# Altium footprint library PcbLib1.PcbLib: 226 footprints (part 6 of 15)
Each footprint in its own frame and in the unit in brackets; x right, y up, seen from the top. Pads: shape width x height; smd on the part's side, far side on the other; paste and mask are expansions set on the pad; w line width, h text height; cw(c..) or ccw(c..) is an arc to the next point about the centre after c.
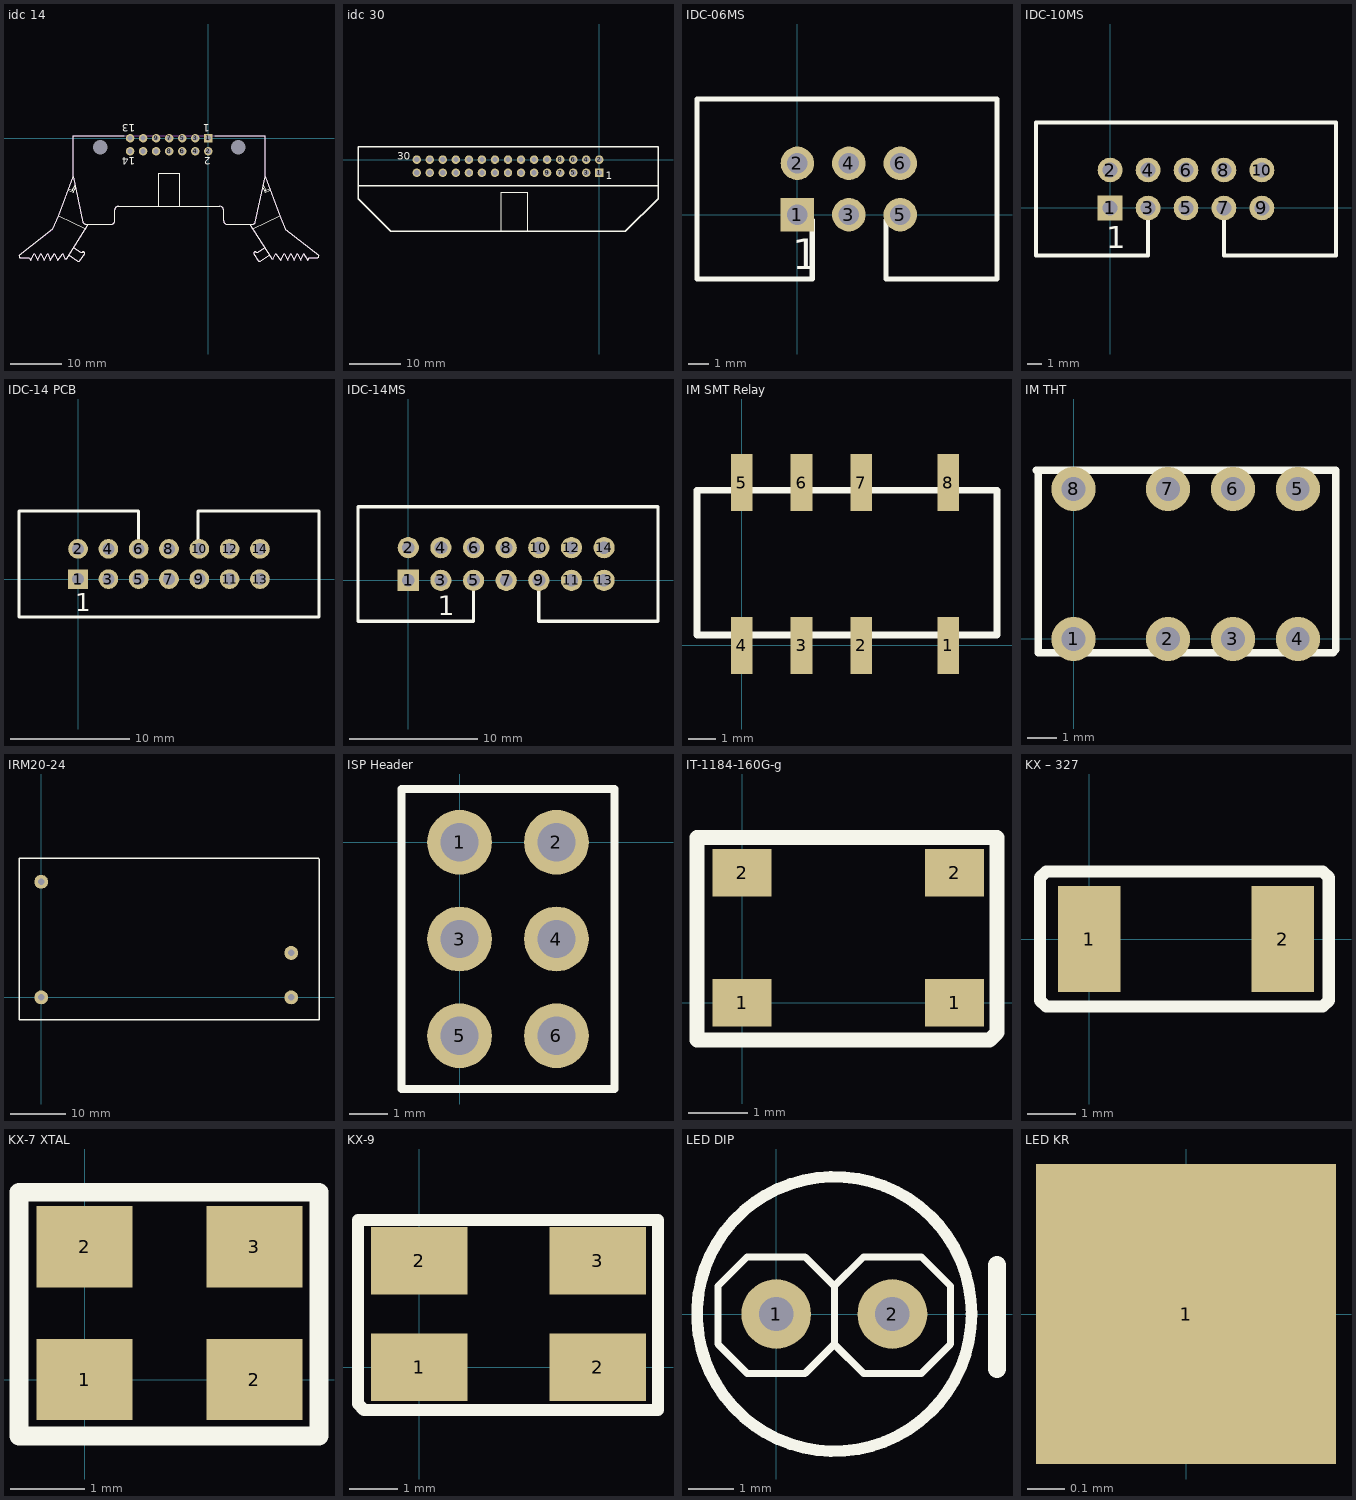
[diagram p5: the footprints below, top view; thin cyan lines are the x and y axes]

## idc 14 [mm]
pads (16):
  rect 1.65x1.65 hole 1: 1(0,0)
  round 1.65 hole 1: 2(0,-2.54) 3(-2.54,0) 4(-2.54,-2.54) 5(-5.08,0) 6(-5.08,-2.54) 7(-7.62,0) 8(-7.62,-2.54) 9(-10.16,0) 10(-10.16,-2.54) 11(-12.7,0) 12(-12.7,-2.54) 13(-15.24,0) 14(-15.24,-2.54)
  round 2.5 hole 2.8 unplated: MH1(5.84,-1.8) MH2(-21.08,-1.8)
Top Overlay:
  lines w0.2: -36.883,-22.846 ccw(c-36.574,-22.987) -36.574,-23.327 -34.963,-23.327 ; -36.835,-22.794 -30.3,-17.7 ; -30.285,-17.725 -29.159,-15.11 ; -27.29,-10.121 -26.325,-10.57 ; -27.161,-9.833 -26.49,-10.147 ; -27.155,-22.87 -25.432,-23.995 ccw(c-25.283,-23.657) -25.017,-23.914 -24.092,-22.515 ccw(c-24.412,-22.495) -24.464,-22.18 cw(c-24.732,-21.865) -24.867,-22.255 ; -26.233,-21.373 -24.87,-22.261 ; -25.963,-9.195 -26.49,-10.147 ; -25.863,-9.648 -26.325,-10.57 ; -23.935,-17.653 -29.159,-15.11 ; -23.364,-16.8 -27.498,-23.328 cw(c-27.821,-23.226) -27.963,-23.535 -28.37,-22.571 -29.4,-23.771 -30.03,-22.571 -30.78,-23.771 -31.33,-22.571 -32.03,-23.771 -32.65,-22.571 -33.3,-23.771 -33.9,-22.571 -34.644,-23.771 ; -16.35,0.5 -26.32,0.5 -26.32,-7.5 ; -9.68,-6.8 -5.58,-6.8 ; -9.67,-13.3 -9.67,-6.804 ; -5.57,-13.3 -5.57,-6.8 ; 1.225,0.5 11.08,0.5 11.08,-7.5 ; 8.124,-16.8 12.258,-23.328 ccw(c12.581,-23.226) 12.723,-23.535 13.13,-22.571 14.16,-23.771 14.79,-22.571 15.54,-23.771 16.09,-22.571 16.79,-23.771 17.41,-22.571 18.06,-23.771 18.661,-22.571 19.405,-23.771 ; 8.695,-17.653 13.919,-15.11 ; 9.627,-22.255 cw(c9.492,-21.865) 9.224,-22.18 ccw(c9.172,-22.495) 8.852,-22.515 9.777,-23.914 ccw(c10.043,-23.657) 10.192,-23.995 11.915,-22.87 ; 9.63,-22.261 10.993,-21.373 ; 10.623,-9.648 11.085,-10.57 ; 10.723,-9.195 11.25,-10.147 ; 11.921,-9.833 11.25,-10.147 ; 12.05,-10.121 11.085,-10.57 ; -34.644,-23.771 -34.9,-23.3 -34.644,-23.771 ; -29.159,-15.11 -26.32,-7.5 ; -26.49,-10.147 -26.325,-10.57 ; -26.32,-7.5 -24.43,-16.372 ccw(c-23.785,-16.1) -23.77,-16.8 -18.925,-16.8 ccw(c-18.925,-16.1) -18.225,-16.1 -18.225,-14 cw(c-17.525,-14) -17.525,-13.3 2.285,-13.3 cw(c2.285,-14) 2.985,-14 2.985,-16.1 ccw(c3.685,-16.1) 3.685,-16.8 8.53,-16.8 ccw(c8.545,-16.1) 9.19,-16.372 11.08,-7.5 ; 11.08,-7.5 13.919,-15.11 ; 11.085,-10.57 11.25,-10.147 ; 13.919,-15.11 15.045,-17.725 21.58,-22.819 cw(c21.271,-22.96) 21.271,-23.3 19.66,-23.3 ; 19.405,-23.771 19.66,-23.3 ; 19.405,-23.771 19.66,-23.3
  text "2" at 0.5,-3.74 h1.5
  text "1" at 0.25,2.7 h1.5
  text "14" at -14.24,-3.74 h1.5
  text "13" at -14.24,2.7 h1.5
Mechanical 13:
  lines w0.1: -34.963,-23.327 -36.574,-23.327 cw(c-36.574,-22.987) -36.883,-22.846 -30.348,-17.752 ; -30.285,-17.725 -29.159,-15.11 -26.32,-7.5 ; -27.155,-22.87 -25.432,-23.995 ccw(c-25.283,-23.657) -25.017,-23.914 -24.092,-22.515 ccw(c-24.412,-22.495) -24.464,-22.18 cw(c-24.732,-21.865) -24.867,-22.255 ; -26.233,-21.373 -24.87,-22.261 ; -23.364,-16.8 -27.498,-23.328 cw(c-27.821,-23.226) -27.963,-23.535 -28.37,-22.571 -29.4,-23.771 -30.03,-22.571 -30.78,-23.771 -31.33,-22.571 -32.03,-23.771 -32.65,-22.571 -33.3,-23.771 -33.9,-22.571 -34.644,-23.771 ; 8.124,-16.8 12.258,-23.328 ccw(c12.581,-23.226) 12.723,-23.535 13.13,-22.571 14.16,-23.771 14.79,-22.571 15.54,-23.771 16.09,-22.571 16.79,-23.771 17.41,-22.571 18.06,-23.771 18.661,-22.571 19.405,-23.771 ; 9.627,-22.255 cw(c9.492,-21.865) 9.224,-22.18 ccw(c9.172,-22.495) 8.852,-22.515 9.777,-23.914 ccw(c10.043,-23.657) 10.192,-23.995 11.915,-22.87 ; 9.63,-22.261 10.993,-21.373 ; -34.644,-23.771 -34.9,-23.3 -34.644,-23.771 ; -26.32,-7.5 -24.43,-16.372 ccw(c-23.785,-16.1) -23.77,-16.8 -18.925,-16.8 ccw(c-18.925,-16.1) -18.225,-16.1 -18.225,-14 cw(c-17.525,-14) -17.525,-13.3 2.285,-13.3 cw(c2.285,-14) 2.985,-14 2.985,-16.1 ccw(c3.685,-16.1) 3.685,-16.8 8.53,-16.8 ccw(c8.545,-16.1) 9.19,-16.372 11.08,-7.5 ; -26.32,-7.5 -26.32,0.5 11.08,0.5 11.08,-7.5 ; 11.08,-7.5 13.919,-15.11 15.045,-17.725 21.58,-22.819 cw(c21.271,-22.96) 21.271,-23.3 19.66,-23.3 ; 19.405,-23.771 19.66,-23.3 ; 19.405,-23.771 19.66,-23.3
3D body: height 8.5, standoff 0, extent -26.321,-16.803 11.081,0.501

## idc 30 [mm]
pads (30):
  rect 1.65x1.65 hole 1: 1(0,-2.54)
  round 1.65 hole 1: 2(0,0) 3(-2.54,-2.54) 4(-2.54,0) 5(-5.08,-2.54) 6(-5.08,0) 7(-7.62,-2.54) 8(-7.62,0) 9(-10.16,-2.54) 10(-10.16,0) 11(-12.7,-2.54) 12(-12.7,0) 13(-15.24,-2.54) 14(-15.24,0) 15(-17.78,-2.54) 16(-17.78,0) 17(-20.32,-2.54) 18(-20.32,0) 19(-22.86,-2.54) 20(-22.86,0) 21(-25.4,-2.54) 22(-25.4,0) 23(-27.94,-2.54) 24(-27.94,0) 25(-30.48,-2.54) 26(-30.48,0) 27(-33.02,-2.54) 28(-33.02,0) 29(-35.56,-2.54) 30(-35.56,0)
Top Overlay:
  lines w0.2: -19.05,-13.97 -19.05,-6.35 -13.97,-6.35 -13.97,-13.97
  lines w0.254: -46.99,-5.08 11.43,-5.08 ; -46.99,-7.62 -46.99,2.54 11.43,2.54 11.43,-7.62 5.08,-13.97 -40.64,-13.97 -46.99,-7.62
  text "1" at 1.27,-3.81 h1.5
  text "30" at -39.37,0 h1.5

## IDC-06MS [mm]
pads (6):
  rect 1.65x1.65 hole 1: 1(0,0)
  round 1.65 hole 1: 2(0,2.54) 3(2.54,0) 4(2.54,2.54) 5(5.08,0) 6(5.08,2.54)
Top Overlay:
  lines w0.254: 0.737,-0.254 0.737,-3.175 -4.953,-3.175 -4.953,5.715 7.62,5.715 9.855,5.715 9.855,-3.175 4.369,-3.175 4.369,-0.254
  text "1" at -0.25,-2.7 h1.5

## IDC-10MS [mm]
pads (10):
  rect 1.65x1.65 hole 1: 1(0,0)
  round 1.65 hole 1: 2(0,2.54) 3(2.54,0) 4(2.54,2.54) 5(5.08,0) 6(5.08,2.54) 7(7.62,0) 8(7.62,2.54) 9(10.16,0) 10(10.16,2.54)
Top Overlay:
  lines w0.254: 2.54,-0.254 2.54,-3.175 -4.953,-3.175 -4.953,5.715 7.62,5.715 15.113,5.715 15.113,-3.175 7.62,-3.175 7.62,-0.254
  text "1" at -0.25,-2.7 h1.5

## IDC-14 PCB [mm]
pads (14):
  rect 1.65x1.65 hole 1: 1(0,0)
  round 1.65 hole 1: 2(0,2.54) 3(2.54,0) 4(2.54,2.54) 5(5.08,0) 6(5.08,2.54) 7(7.62,0) 8(7.62,2.54) 9(10.16,0) 10(10.16,2.54) 11(12.7,0) 12(12.7,2.54) 13(15.24,0) 14(15.24,2.54)
Top Overlay:
  lines w0.254: 5.08,3.429 5.08,5.715 -4.953,5.715 -4.953,-3.175 20.193,-3.175 20.193,5.715 10.033,5.715 10.033,3.302
  text "1" at -0.25,-2.7 h1.5

## IDC-14MS [mm]
pads (14):
  rect 1.65x1.65 hole 1: 1(0,0)
  round 1.65 hole 1: 2(0,2.54) 3(2.54,0) 4(2.54,2.54) 5(5.08,0) 6(5.08,2.54) 7(7.62,0) 8(7.62,2.54) 9(10.16,0) 10(10.16,2.54) 11(12.7,0) 12(12.7,2.54) 13(15.24,0) 14(15.24,2.54)
Top Overlay:
  lines w0.254: 5.08,-0.254 5.08,-3.175 -3.912,-3.175 -3.912,5.715 10.16,5.715 19.431,5.715 19.431,-3.175 10.16,-3.175 10.16,-0.254
  text "1" at 2.29,-2.7 h1.5

## IM SMT Relay [mm]
height 6
pads (8):
  rect 0.8x2.1 smd: 1(7.6,0) 2(4.4,0) 3(2.2,0) 4(0,0) 5(0,6) 6(2.2,6) 7(4.4,6) 8(7.6,6)
Top Overlay:
  lines w0.254: -1.651,0.381 -1.651,5.715 9.398,5.715 9.398,0.381 -1.651,0.381

## IM THT [mm]
pads (8):
  round 1.5 hole 0.8: 1(0,0) 2(3.2,0) 3(5.4,0) 4(7.6,0) 5(7.6,5.08) 6(5.4,5.08) 7(3.2,5.08) 8(0,5.08)
Top Overlay:
  lines w0.254: -1.27,5.715 8.89,5.715 8.89,-0.37 8.8,-0.46 -1.2,-0.46 -1.2,5.645 -1.27,5.715

## IRM20-24 [mm]
height 25
pads (4):
  round 2.5 hole 1.2: 0VGnd(45,0) +V24(45,8) AC_L(0,20.8) AC_N(0,0)
Top Overlay:
  lines w0.254: -4,25 -4,-4 50,-4 50,24.982 ; -3.993,25.007 49.975,25.007

## ISP Header [mm]
pads (6):
  round 1.7 hole 1: 1(0,0) 2(2.54,0) 3(0,-2.54) 4(2.54,-2.54) 5(0,-5.08) 6(2.54,-5.08)
Top Overlay:
  lines w0.2: -1.524,-6.477 -1.524,1.397 4.064,1.397 4.064,-6.477 -1.524,-6.477

## IT-1184-160G-g [mm]
height 2
pads (4):
  rect 1x0.8 smd: 1(0,0) 1(3.6,0) 2(0,2.2) 2(3.6,2.2)
Top Overlay:
  lines w0.254: -0.762,-0.635 -0.762,2.794 4.318,2.794 4.318,-0.508 4.191,-0.635 -0.762,-0.635

## KX – 327 [mm]
height 2
pads (2):
  rect 1.3x2.2 smd: 1(0,0) 2(4,0)
Top Overlay:
  lines w0.254: -1.016,-1.27 -1.016,1.27 -0.889,1.397 4.826,1.397 4.953,1.27 4.953,-1.27 4.826,-1.397 4.572,-1.397 -0.889,-1.397 -1.016,-1.27

## KX-7 XTAL [mm]
height 1
pads (4):
  rect 1.3x1.1 smd: 1(0,0) 2(0,1.8) 2(2.3,0) 3(2.3,1.8)
Top Overlay:
  lines w0.254: -0.889,-0.762 -0.889,2.54 3.175,2.54 3.175,-0.762 -0.889,-0.762

## KX-9 [mm]
pads (4):
  rect 2x1.4 smd: 1(0,0) 2(0,2.2) 2(3.7,0) 3(3.7,2.2)
Top Overlay:
  lines w0.254: -1.27,-0.762 -1.27,3.048 4.953,3.048 4.953,-0.889 -1.143,-0.889 -1.27,-0.762

## LED DIP [mil]
pads (2):
  round 60 hole 29.53: 1(0,0)
  round 60 hole 29.53 mask+4: 2(100,0)
Top Overlay:
  circle w10: c50,0 r118.11
  lines w6: -25,49 25,49 ; -25,49 25,49 ; -25,49 -50,24 -50,-26 -25,-51 25,-51 50,-26 ; 25,49 50,24 ; 50,-26 50,24 ; 50,-26 50,24 ; 50,-26 75,-51 125,-51 150,-26 ; 50,-26 50,24 ; 50,24 75,49 ; 75,49 125,49 ; 75,49 125,49 ; 125,49 150,24 ; 150,-26 150,24 ; 150,-26 150,24
  lines w15.75: 190,-47 190,42

## LED KR [mm]
height 2
pads (1):
  rect 0.8x0.8 smd: 1(0,0)